# Altium integrated library LogicProbe.IntLib: 28 symbols
Pins are listed as number, name and electrical type; pins without a type are passive.

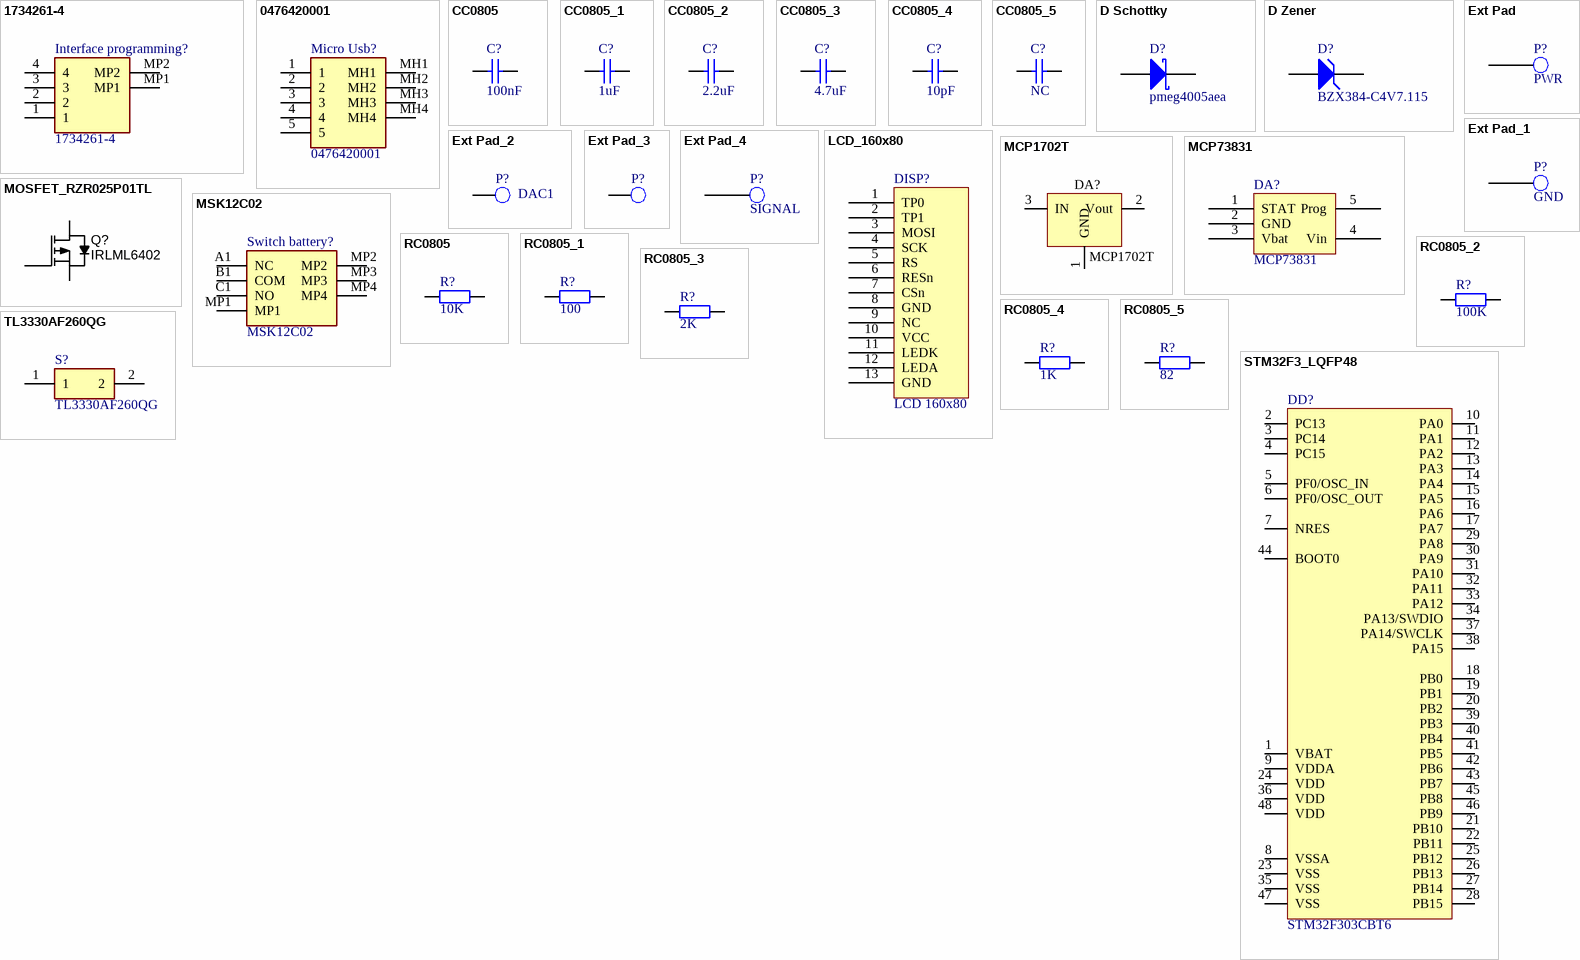
[diagram p0: symbols 1734261-4 to TL3330AF260QG]

## 1734261-4
designator Interface programming?
Connector; Manufacturer_Name: TE Connectivity; Datasheet Link: https://www.te.com/commerce/DocumentDelivery/DDEController?Action=showdoc&DocId=Customer+Drawing%7F1734261%7FA3%7Fpdf%7FEnglish%7FENG_CD_1734261_A3.pdf%7F1734261-4; Height: 3.7mm; Manufacturer_Part_Number: 1734261-4; Mouser Part Number: 571-1734261-4; Mouser Price/Stock: https://www.mouser.co.uk/ProductDetail/TE-Connectivity-AMP/1734261-4?qs=%252BMxOCPyBJh%252BxywytzbuocA%3D%3D; Arrow Part Number: 1734261-4; Arrow Price/Stock: https://www.arrow.com/en/products/1734261-4/te-connectivity?region=nac
footprint 17342614
pins: 1, 2, 3, 4, MP1, MP2

## 0476420001
designator Micro Usb?
Connector; Manufacturer_Name: Molex; Datasheet Link: https://www.molex.com/pdm_docs/sd/476420001_sd.pdf; Height: 2.94mm; Manufacturer_Part_Number: 0476420001; Mouser Part Number: N/A; Mouser Price/Stock: https://www.mouser.co.uk/ProductDetail/Molex/0476420001?qs=PBcRNPEHKsrxICNNodjW6Q%3D%3D; Arrow Part Number: 0476420001; Arrow Price/Stock: https://www.arrow.com/en/products/0476420001/molex?region=nac
footprint 0476420001
pins: 1, 2, 3, 4, 5, MH1, MH2, MH3, MH4

## CC0805
designator C?, comment 100nF
Chip capacitor; Voltage: 25V; Series: X7R; Value: 100nF
simulation model CAP (Capacitor)
signal-integrity model Cap
footprint CAPC1608X90N (Chip Capacitor, Body 1.6x0.8mm, EIA 0603, IPC Medium Density)
footprint CAPC2012X135N (Chip Capacitor, Body 2.0x1.2mm, EIA 0805, IPC Medium Density)
footprint CC3216[1206] (Chip Capacitor; Body 3.2 x 1.6 mm (LxW typ))
footprint CC4532[1812] (Chip Capacitor; Body 4.5 x 3.2 mm (LxW typ))
footprint CC3225[1210] (Chip Capacitor; Body 3.2 x 2.5 mm (LxW typ))
footprint CC4564[1825] (Chip Capacitor; Body 4.5 x 6.4 mm (LxW typ))
footprint CC5750[2220] (Chip Capacitor, Body 5.7x5.0mm)
pins: 1, 2

## CC0805_1
designator C?, comment 1uF
Chip capacitor; Voltage: 25V; Series: X7R; Value: 1uF
simulation model CAP (Capacitor)
signal-integrity model Cap
footprint CC1608[0603] (Chip Capacitor; Body 1.6 x 0.8 mm (LxW typ))
footprint CAPC2012X135N (Chip Capacitor, Body 2.0x1.2mm, EIA 0805, IPC Medium Density)
footprint CC3216[1206] (Chip Capacitor; Body 3.2 x 1.6 mm (LxW typ))
footprint CC4532[1812] (Chip Capacitor; Body 4.5 x 3.2 mm (LxW typ))
footprint CC3225[1210] (Chip Capacitor; Body 3.2 x 2.5 mm (LxW typ))
footprint CC4564[1825] (Chip Capacitor; Body 4.5 x 6.4 mm (LxW typ))
footprint CC5750[2220] (Chip Capacitor, Body 5.7x5.0mm)
pins: 1, 2

## CC0805_2
designator C?, comment 2.2uF
Chip capacitor; Voltage: 25V; Series: X7R; Value: 2.2uF
simulation model CAP (Capacitor)
signal-integrity model Cap
footprint CAPC1608X90N (Chip Capacitor, Body 1.6x0.8mm, EIA 0603, IPC Medium Density)
footprint CAPC2012X135N (Chip Capacitor, Body 2.0x1.2mm, EIA 0805, IPC Medium Density)
footprint CC3216[1206] (Chip Capacitor; Body 3.2 x 1.6 mm (LxW typ))
footprint CC4532[1812] (Chip Capacitor; Body 4.5 x 3.2 mm (LxW typ))
footprint CC3225[1210] (Chip Capacitor; Body 3.2 x 2.5 mm (LxW typ))
footprint CC4564[1825] (Chip Capacitor; Body 4.5 x 6.4 mm (LxW typ))
footprint CC5750[2220] (Chip Capacitor, Body 5.7x5.0mm)
pins: 1, 2

## CC0805_3
designator C?, comment 4.7uF
Chip capacitor; Voltage: 25V; Series: X7R; Value: 4.7uF
simulation model CAP (Capacitor)
signal-integrity model Cap
footprint CAPC1608X90N (Chip Capacitor, Body 1.6x0.8mm, EIA 0603, IPC Medium Density)
footprint CAPC2012X135N (Chip Capacitor, Body 2.0x1.2mm, EIA 0805, IPC Medium Density)
footprint CC3216[1206] (Chip Capacitor; Body 3.2 x 1.6 mm (LxW typ))
footprint CC4532[1812] (Chip Capacitor; Body 4.5 x 3.2 mm (LxW typ))
footprint CC3225[1210] (Chip Capacitor; Body 3.2 x 2.5 mm (LxW typ))
footprint CC4564[1825] (Chip Capacitor; Body 4.5 x 6.4 mm (LxW typ))
footprint CC5750[2220] (Chip Capacitor, Body 5.7x5.0mm)
pins: 1, 2

## CC0805_4
designator C?, comment 10pF
Chip capacitor; Voltage: 25V; Series: X7R; Value: 10pF
simulation model CAP (Capacitor)
signal-integrity model Cap
footprint CAPC1608X90N (Chip Capacitor, Body 1.6x0.8mm, EIA 0603, IPC Medium Density)
footprint CAPC2012X135N (Chip Capacitor, Body 2.0x1.2mm, EIA 0805, IPC Medium Density)
footprint CC3216[1206] (Chip Capacitor; Body 3.2 x 1.6 mm (LxW typ))
footprint CC4532[1812] (Chip Capacitor; Body 4.5 x 3.2 mm (LxW typ))
footprint CC3225[1210] (Chip Capacitor; Body 3.2 x 2.5 mm (LxW typ))
footprint CC4564[1825] (Chip Capacitor; Body 4.5 x 6.4 mm (LxW typ))
footprint CC5750[2220] (Chip Capacitor, Body 5.7x5.0mm)
pins: 1, 2

## CC0805_5
designator C?, comment NC
Chip capacitor; Voltage: 25V; Series: X7R; Value: NC
simulation model CAP (Capacitor)
signal-integrity model Cap
footprint CAPC1608X90N (Chip Capacitor, Body 1.6x0.8mm, EIA 0603, IPC Medium Density)
footprint CAPC2012X135N (Chip Capacitor, Body 2.0x1.2mm, EIA 0805, IPC Medium Density)
footprint CC3216[1206] (Chip Capacitor; Body 3.2 x 1.6 mm (LxW typ))
footprint CC4532[1812] (Chip Capacitor; Body 4.5 x 3.2 mm (LxW typ))
footprint CC3225[1210] (Chip Capacitor; Body 3.2 x 2.5 mm (LxW typ))
footprint CC4564[1825] (Chip Capacitor; Body 4.5 x 6.4 mm (LxW typ))
footprint CC5750[2220] (Chip Capacitor, Body 5.7x5.0mm)
pins: 1, 2

## D Schottky
designator D?, comment pmeg4005aea
Schottky Diode; Published: 8-Jun-2000; LatestRevisionDate: 17-Jul-2002; LatestRevisionNote: Re-released for DXP Platform.; PackageReference: SMB; Publisher: Altium Limited; PackageDescription: DO-214-AA/SMB; 2 C-Bend Leads; Body 5.3 x 3.6 mm, inc. leads (LxW); Code_JEDEC: DO-214-AA
footprint SOD-323F/SC-90
simulation model SKYDIODE (Diode)
signal-integrity model D Schottky
footprint SOD-323F/SC-90_INV (Diode - inverted)
pins: 1 A, 2 K

## D Zener
designator D?, comment BZX384-C4V7.115
Zener Diode; Published: 8-Jun-2000; LatestRevisionDate: 17-Jul-2002; LatestRevisionNote: Re-released for DXP Platform.; PackageReference: DIODE-0.7; Publisher: Altium Limited; PackageDescription: Diode, Thru-Hole; 2 Leads; 0.7 in Pin Spacing
footprint SOD-323F/SC-90_INV (Diode - inverted)
simulation model ZENER (Diode)
signal-integrity model D Zener
pins: 1 A, 2 K

## Ext Pad
designator P?, comment PWR
Pad for wire
footprint Ext_pad_2 (Pad for wire(1.5x2))
pins: 1 Pad

## Ext Pad_1
designator P?, comment GND
Pad for wire
footprint Ext_pad_2 (Pad for wire(1.5x2))
pins: 1 Pad

## Ext Pad_2
designator P?, comment DAC1
Pad for wire
footprint Ext_pad (Pad for wire(3x2))
footprint Ext_pad_small (Pad for wire(1.5mm round))
pins: 1 Pad

## Ext Pad_3
designator P?, comment Pad  (value not drawn)
Pad for wire
footprint Ext_pad (Pad for wire(3x2))
footprint Ext_pad_small (Pad for wire(1.5mm round))
pins: 1 Pad

## Ext Pad_4
designator P?, comment SIGNAL
Pad for wire
footprint Ext_pad (Pad for wire(3x2))
pins: 1 Pad

## LCD_160x80
designator DISP?, comment LCD 160x80
footprint LCD_160_80
pins: 1 TP0, 2 TP1, 3 MOSI, 4 SCK, 5 RS, 6 RESn, 7 CSn, 8 GND, 9 NC, 10 VCC, 11 LEDK, 12 LEDA, 13 GND

## MCP1702T
designator DA?
Linear voltage regulator
footprint SOT23-3 (SOT23, 3 pin)
pins: 1 GND (power), 2 Vout (power), 3 IN (power)

## MCP73831
designator DA?
Li-Ion Charger
footprint SOT23-5
pins: 1 STAT (oc), 2 GND (power), 3 Vbat (power), 4 Vin (power), 5 Prog

## MOSFET_RZR025P01TL
designator Q?, comment IRLML6402
MOSFET SMD P-CH; Manufacturer 1: Rohm Semiconductor; Manufacturer Part Number 1: RZR025P01TL; Rds On (Max) @ Id, Vgs: 61 mOhm @ 2.5A, 4.5V; Ratings: 12V; 2.5A; 1W; SCDType: spec; Value: IRLML6402; Package / Case: SOT23-3; TSMT3; Supplier 1: Digi-Key; Supplier Part Number 1: RZR025P01TLCT-ND
footprint SOT23-3 (SOT23, 3 pin)
pins: 1 G, 2 S, 3 D

## MSK12C02
designator Switch battery?
Switch; Manufacturer_Name: Shou Han; Datasheet Link: https://shouhan.en.made-in-china.com/product/xsMEmqgOAXWB/China-Slide-Switch-Msk12c02-Slide-Switch-on-off-2-Position-1p2t-Spdt-Miniature-Horizontal-SMD-7p-Slide-Switch.html; Height: 1.4mm; Manufacturer_Part_Number: MSK12C02
footprint MSK12C02
pins: A1 NC, B1 COM, C1 NO, MP1, MP2, MP3, MP4

## RC0805
designator R?, comment 10K
Chip resistor; Tolerance: 5%; Value: 10K
simulation model RESISTOR (Resistor)
signal-integrity model Res
footprint RESC1608X55N (Chip Resistor, Body 1.6x0.8mm, EIA 0603, IPC Medium Density)
footprint RC2012[0805] (Chip Resistor; Body 2.0 x 1.3 mm (LxW typ))
footprint RC3216[1206] (Chip Resistor; Body 3.2 x 1.6 mm (LxW typ))
footprint RC1005[0402] (Chip Resistor; Body 1.1 x 0.5 mm (LxW typ))
footprint RC3225[1210] (Chip Resistor; Body 3.2 x 2.5 mm (LxW typ))
footprint RC5025[2010] (Chip Resistor; Body 5.0 x 2.5 mm (LxW typ))
footprint RC6332[2512] (Chip Resistor; Body 6.3 x 3.2 mm (LxW typ))
pins: 1, 2

## RC0805_1
designator R?, comment 100
Chip resistor; Tolerance: 5%; Value: 100
simulation model RESISTOR (Resistor)
signal-integrity model Res
footprint RESC1608X55N (Chip Resistor, Body 1.6x0.8mm, EIA 0603, IPC Medium Density)
footprint RC2012[0805] (Chip Resistor; Body 2.0 x 1.3 mm (LxW typ))
footprint RC3216[1206] (Chip Resistor; Body 3.2 x 1.6 mm (LxW typ))
footprint RC1005[0402] (Chip Resistor; Body 1.1 x 0.5 mm (LxW typ))
footprint RC3225[1210] (Chip Resistor; Body 3.2 x 2.5 mm (LxW typ))
footprint RC5025[2010] (Chip Resistor; Body 5.0 x 2.5 mm (LxW typ))
footprint RC6332[2512] (Chip Resistor; Body 6.3 x 3.2 mm (LxW typ))
pins: 1, 2

## RC0805_2
designator R?, comment 100K
Chip resistor; Tolerance: 5%; Value: 100K
simulation model RESISTOR (Resistor)
signal-integrity model Res
footprint RESC1608X55N (Chip Resistor, Body 1.6x0.8mm, EIA 0603, IPC Medium Density)
footprint RC2012[0805] (Chip Resistor; Body 2.0 x 1.3 mm (LxW typ))
footprint RC3216[1206] (Chip Resistor; Body 3.2 x 1.6 mm (LxW typ))
footprint RC1005[0402] (Chip Resistor; Body 1.1 x 0.5 mm (LxW typ))
footprint RC3225[1210] (Chip Resistor; Body 3.2 x 2.5 mm (LxW typ))
footprint RC5025[2010] (Chip Resistor; Body 5.0 x 2.5 mm (LxW typ))
footprint RC6332[2512] (Chip Resistor; Body 6.3 x 3.2 mm (LxW typ))
pins: 1, 2

## RC0805_3
designator R?, comment 2K
Chip resistor; Tolerance: 5%; Value: 2K
simulation model RESISTOR (Resistor)
signal-integrity model Res
footprint RESC1608X55N (Chip Resistor, Body 1.6x0.8mm, EIA 0603, IPC Medium Density)
footprint RESC2012X70N (Chip Resistor, Body 2.0x1.2mm, EIA 0805, IPC Medium Density)
footprint RC3216[1206] (Chip Resistor; Body 3.2 x 1.6 mm (LxW typ))
footprint RC1005[0402] (Chip Resistor; Body 1.1 x 0.5 mm (LxW typ))
footprint RC3225[1210] (Chip Resistor; Body 3.2 x 2.5 mm (LxW typ))
footprint RC5025[2010] (Chip Resistor; Body 5.0 x 2.5 mm (LxW typ))
footprint RC6332[2512] (Chip Resistor; Body 6.3 x 3.2 mm (LxW typ))
pins: 1, 2

## RC0805_4
designator R?, comment 1K
Chip resistor; Tolerance: 5%; Value: 1K
simulation model RESISTOR (Resistor)
signal-integrity model Res
footprint RESC1608X55N (Chip Resistor, Body 1.6x0.8mm, EIA 0603, IPC Medium Density)
footprint RC2012[0805] (Chip Resistor; Body 2.0 x 1.3 mm (LxW typ))
footprint RC3216[1206] (Chip Resistor; Body 3.2 x 1.6 mm (LxW typ))
footprint RC1005[0402] (Chip Resistor; Body 1.1 x 0.5 mm (LxW typ))
footprint RC3225[1210] (Chip Resistor; Body 3.2 x 2.5 mm (LxW typ))
footprint RC5025[2010] (Chip Resistor; Body 5.0 x 2.5 mm (LxW typ))
footprint RC6332[2512] (Chip Resistor; Body 6.3 x 3.2 mm (LxW typ))
pins: 1, 2

## RC0805_5
designator R?, comment 82
Chip resistor; Tolerance: 5%; Value: 82
simulation model RESISTOR (Resistor)
signal-integrity model Res
footprint RESC1608X55N (Chip Resistor, Body 1.6x0.8mm, EIA 0603, IPC Medium Density)
footprint RESC2012X70N (Chip Resistor, Body 2.0x1.2mm, EIA 0805, IPC Medium Density)
footprint RC3216[1206] (Chip Resistor; Body 3.2 x 1.6 mm (LxW typ))
footprint RC1005[0402] (Chip Resistor; Body 1.1 x 0.5 mm (LxW typ))
footprint RC3225[1210] (Chip Resistor; Body 3.2 x 2.5 mm (LxW typ))
footprint RC5025[2010] (Chip Resistor; Body 5.0 x 2.5 mm (LxW typ))
footprint RC6332[2512] (Chip Resistor; Body 6.3 x 3.2 mm (LxW typ))
pins: 1, 2

## STM32F3_LQFP48
designator DD?, comment STM32F303CBT6
Microcontroller
footprint LQFP-48_N (Thin QFP, 48-Leads, Body 7x7mm, Pitch 0.5mm, IPC Medium Density)
pins: 1 VBAT, 2 PC13, 3 PC14, 4 PC15, 5 PF0/OSC_IN, 6 PF0/OSC_OUT, 7 NRES, 8 VSSA, 9 VDDA, 10 PA0, 11 PA1, 12 PA2, 13 PA3, 14 PA4, 15 PA5, 16 PA6, 17 PA7, 18 PB0, 19 PB1, 20 PB2, 21 PB10, 22 PB11, 23 VSS, 24 VDD, 25 PB12, 26 PB13, 27 PB14, 28 PB15, 29 PA8, 30 PA9, 31 PA10, 32 PA11, 33 PA12, 34 PA13/SWDIO, 35 VSS, 36 VDD, 37 PA14/SWCLK, 38 PA15, 39 PB3, 40 PB4, 41 PB5, 42 PB6, 43 PB7, 44 BOOT0, 45 PB8, 46 PB9, 47 VSS, 48 VDD

## TL3330AF260QG
designator S?
Switch; Manufacturer_Name: E-Switch; Datasheet Link: https://datasheet.datasheetarchive.com/originals/distributors/SFDatasheet-1/sf-00021243.pdf; Manufacturer_Part_Number: TL3330AF260QG; Mouser Part Number: 612-TL3330AF260QG; Mouser Price/Stock: https://www.mouser.co.uk/ProductDetail/E-Switch/TL3330AF260QG?qs=cyOInwlKnROnXHK5BnOqnQ%3D%3D
footprint TL3330
pins: 1, 2